# Altium footprint library con-rib.PCBLIB: 15 footprints
Each footprint in its own frame and in the unit in brackets; x right, y up, seen from the top. Pads: shape width x height; smd on the part's side, far side on the other; paste and mask are expansions set on the pad; w line width, h text height; cw(c..) or ccw(c..) is an arc to the next point about the centre after c.
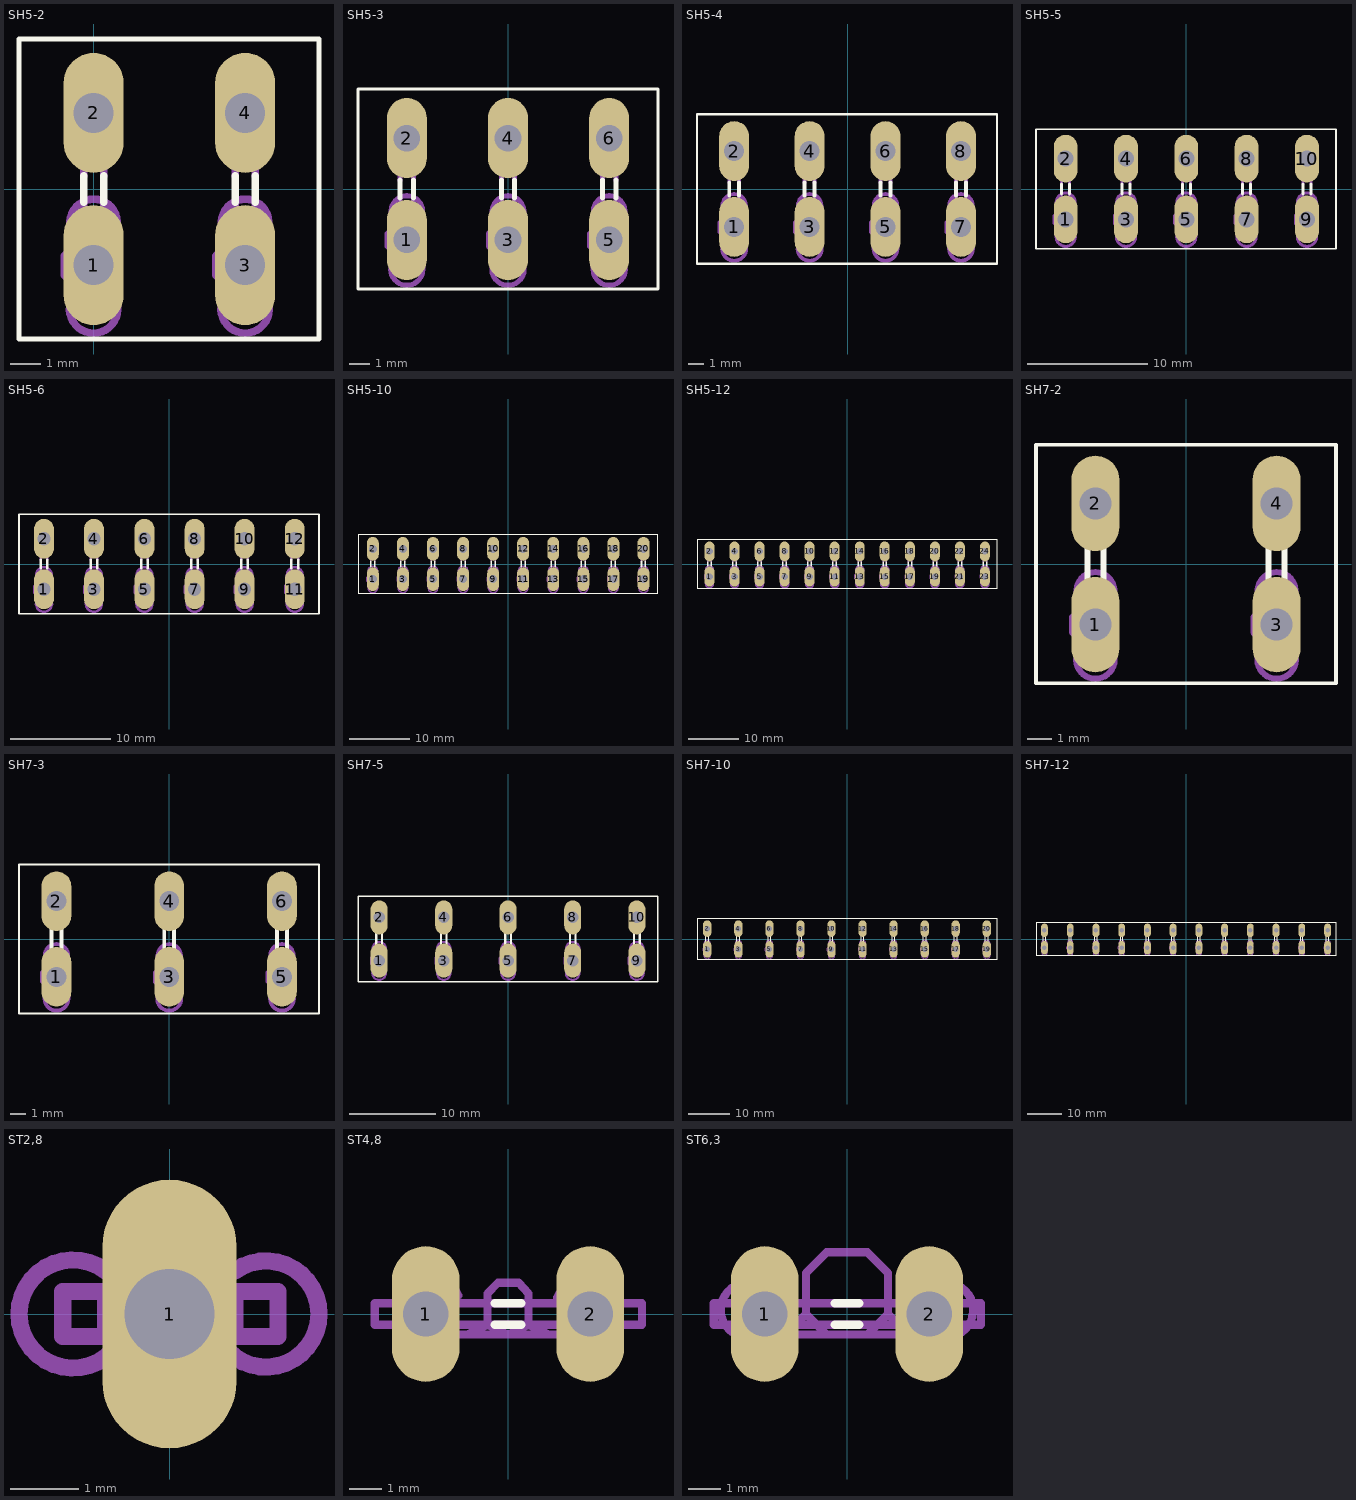
[diagram p0: the footprints below, top view; thin cyan lines are the x and y axes]

## SH5-2 [mil]
pads (4):
  oval 78x156 hole 52: 1(0,-99) 2(0,99) 3(197,-99) 4(197,99)
Top Overlay:
  lines w6: -97,-195 293,-195 293,195 -97,195 -97,-195
  lines w10: -13,-17 -13,17 ; 13,-17 13,17 ; 184,-17 184,17 ; 210,-17 210,17
Mechanical 16:
  lines w10: -25,-137 ccw(c0,-156) 25,-137 ; -25,-62 cw(c0,-44) 25,-62 ; -13,-17 -13,-37 ; -13,17 -13,38 ; 13,-17 13,-37 ; 13,17 13,38 ; 172,-137 ccw(c197,-156) 222,-137 ; 172,-62 cw(c197,-44) 222,-62 ; 184,-17 184,-37 ; 184,17 184,38 ; 210,-17 210,-37 ; 210,17 210,38 ; -13,-137 -13,-62 ; -13,-137 13,-137 ; -13,-137 -13,-162 13,-162 13,-137 ; -13,-62 13,-62 ; -13,-62 -13,-37 ; -13,-37 13,-37 ; -13,38 -13,63 ; -13,38 13,38 ; -13,63 -13,138 ; -13,63 13,63 ; -13,138 13,138 ; -13,138 -13,163 13,163 13,138 ; 13,-137 13,-125 ; 13,-125 13,-75 ; 13,-125 25,-125 ; 13,-125 25,-137 ; 13,-125 -25,-125 -38,-112 -38,-87 -25,-75 13,-75 ; 13,-125 25,-112 ; 13,-75 13,-62 ; 13,-75 25,-75 ; 13,-75 25,-62 ; 13,-75 25,-87 ; 13,-62 13,-37 ; 13,38 13,63 ; 13,63 13,138 ; 25,-137 25,-125 ; 25,-125 25,-112 ; 25,-112 25,-87 ; 25,-87 25,-75 ; 25,-75 25,-62 ; 184,-137 184,-62 ; 184,-137 210,-137 ; 184,-137 184,-162 210,-162 210,-137 ; 184,-62 210,-62 ; 184,-62 184,-37 ; 184,-37 210,-37 ; 184,38 184,63 ; 184,38 210,38 ; 184,63 184,138 ; 184,63 210,63 ; 184,138 210,138 ; 184,138 184,163 210,163 210,138 ; 210,-137 210,-125 ; 210,-125 210,-75 ; 210,-125 222,-125 ; 210,-125 222,-137 ; 210,-125 172,-125 159,-112 159,-87 172,-75 210,-75 ; 210,-125 222,-112 ; 210,-75 210,-62 ; 210,-75 222,-75 ; 210,-75 222,-62 ; 210,-75 222,-87 ; 210,-62 210,-37 ; 210,38 210,63 ; 210,63 210,138 ; 222,-137 222,-125 ; 222,-125 222,-112 ; 222,-112 222,-87 ; 222,-87 222,-75 ; 222,-75 222,-62

## SH5-3 [mil]
pads (6):
  oval 78x156 hole 52: 1(-197,-99) 2(-197,99) 3(0,-99) 4(0,99) 5(197,-99) 6(197,99)
Top Overlay:
  lines w6: -292,-195 292,-195 292,195 -292,195 -292,-195
  lines w10: -210,-17 -210,17 ; -184,-17 -184,17 ; -13,-17 -13,17 ; 13,-17 13,17 ; 184,-17 184,17 ; 210,-17 210,17
Mechanical 16:
  lines w10: -222,-137 ccw(c-197,-156) -172,-137 ; -222,-62 cw(c-197,-44) -172,-62 ; -210,-17 -210,-37 ; -210,17 -210,38 ; -184,-17 -184,-37 ; -184,17 -184,38 ; -25,-137 ccw(c0,-156) 25,-137 ; -25,-62 cw(c0,-44) 25,-62 ; -13,-17 -13,-37 ; -13,17 -13,38 ; 13,-17 13,-37 ; 13,17 13,38 ; 172,-137 ccw(c197,-156) 222,-137 ; 172,-62 cw(c197,-44) 222,-62 ; 184,-17 184,-37 ; 184,17 184,38 ; 210,-17 210,-37 ; 210,17 210,38 ; -210,-137 -210,-62 ; -210,-137 -184,-137 ; -210,-137 -210,-162 -184,-162 -184,-137 ; -210,-62 -184,-62 ; -210,-62 -210,-37 ; -210,-37 -184,-37 ; -210,38 -210,63 ; -210,38 -184,38 ; -210,63 -210,138 ; -210,63 -184,63 ; -210,138 -184,138 ; -210,138 -210,163 -184,163 -184,138 ; -184,-137 -184,-125 ; -184,-125 -184,-75 ; -184,-125 -172,-125 ; -184,-125 -172,-137 ; -184,-125 -222,-125 -235,-112 -235,-87 -222,-75 -184,-75 ; -184,-125 -172,-112 ; -184,-75 -184,-62 ; -184,-75 -172,-75 ; -184,-75 -172,-62 ; -184,-75 -172,-87 ; -184,-62 -184,-37 ; -184,38 -184,63 ; -184,63 -184,138 ; -172,-137 -172,-125 ; -172,-125 -172,-112 ; -172,-112 -172,-87 ; -172,-87 -172,-75 ; -172,-75 -172,-62 ; -13,-137 -13,-62 ; -13,-137 13,-137 ; -13,-137 -13,-162 13,-162 13,-137 ; -13,-62 13,-62 ; -13,-62 -13,-37 ; -13,-37 13,-37 ; -13,38 -13,63 ; -13,38 13,38 ; -13,63 -13,138 ; -13,63 13,63 ; -13,138 13,138 ; -13,138 -13,163 13,163 13,138 ; 13,-137 13,-125 ; 13,-125 13,-75 ; 13,-125 25,-125 ; 13,-125 25,-137 ; 13,-125 -25,-125 -38,-112 -38,-87 -25,-75 13,-75 ; 13,-125 25,-112 ; 13,-75 13,-62 ; 13,-75 25,-75 ; 13,-75 25,-62 ; 13,-75 25,-87 ; 13,-62 13,-37 ; 13,38 13,63 ; 13,63 13,138 ; 25,-137 25,-125 ; 25,-125 25,-112 ; 25,-112 25,-87 ; 25,-87 25,-75 ; 25,-75 25,-62 ; 184,-137 184,-62 ; 184,-137 210,-137 ; 184,-137 184,-162 210,-162 210,-137 ; 184,-62 210,-62 ; 184,-62 184,-37 ; 184,-37 210,-37 ; 184,38 184,63 ; 184,38 210,38 ; 184,63 184,138 ; 184,63 210,63 ; 184,138 210,138 ; 184,138 184,163 210,163 210,138 ; 210,-137 210,-125 ; 210,-125 210,-75 ; 210,-125 222,-125 ; 210,-125 222,-137 ; 210,-125 172,-125 159,-112 159,-87 172,-75 210,-75 ; 210,-125 222,-112 ; 210,-75 210,-62 ; 210,-75 222,-75 ; 210,-75 222,-62 ; 210,-75 222,-87 ; 210,-62 210,-37 ; 210,38 210,63 ; 210,63 210,138 ; 222,-137 222,-125 ; 222,-125 222,-112 ; 222,-112 222,-87 ; 222,-87 222,-75 ; 222,-75 222,-62

## SH5-4 [mil]
pads (8):
  oval 78x156 hole 52: 1(-296,-99) 2(-296,99) 3(-99,-99) 4(-99,99) 5(99,-99) 6(99,99) 7(296,-99) 8(296,99)
Top Overlay:
  lines w6: -393,-195 -393,195 390,195 390,-195 -393,-195
  lines w10: -309,-17 -309,17 ; -283,-17 -283,17 ; -112,-17 -112,17 ; -86,-17 -86,17 ; 86,-17 86,17 ; 112,-17 112,17 ; 283,-17 283,17 ; 309,-17 309,17
Mechanical 16:
  drawing of 176 lines, arcs and shapes, not listed

## SH5-5 [mil]
pads (10):
  oval 78x156 hole 52: 1(-394,-99) 2(-394,99) 3(-197,-99) 4(-197,99) 5(0,-99) 6(0,99) 7(197,-99) 8(197,99) 9(394,-99) 10(394,99)
Top Overlay:
  lines w6: -491,-195 -491,195 489,195 489,-195 -491,-195
  lines w10: -407,-17 -407,17 ; -381,-17 -381,17 ; -210,-17 -210,17 ; -184,-17 -184,17 ; -13,-17 -13,17 ; 13,-17 13,17 ; 184,-17 184,17 ; 210,-17 210,17 ; 381,-17 381,17 ; 407,-17 407,17
Mechanical 16:
  drawing of 220 lines, arcs and shapes, not listed

## SH5-6 [mil]
pads (12):
  oval 78x156 hole 52: 1(-492,-99) 2(-492,99) 3(-296,-99) 4(-296,99) 5(-98,-99) 6(-98,99) 7(99,-99) 8(99,99) 9(295,-99) 10(295,99) 11(492,-99) 12(492,99)
Top Overlay:
  lines w6: -590,-195 -590,195 587,195 587,-195 -590,-195
  lines w10: -505,-17 -505,17 ; -479,-17 -479,17 ; -309,-17 -309,17 ; -283,-17 -283,17 ; -111,-17 -111,17 ; -85,-17 -85,17 ; 86,-17 86,17 ; 112,-17 112,17 ; 282,-17 282,17 ; 308,-17 308,17 ; 479,-17 479,17 ; 505,-17 505,17
Mechanical 16:
  drawing of 264 lines, arcs and shapes, not listed

## SH5-10 [mil]
pads (20):
  oval 78x156 hole 52: 1(-886,-99) 2(-886,99) 3(-689,-99) 4(-689,99) 5(-492,-99) 6(-492,99) 7(-295,-99) 8(-295,99) 9(-98,-99) 10(-98,99) 11(98,-99) 12(98,99) 13(295,-99) 14(295,99) 15(492,-99) 16(492,99) 17(689,-99) 18(689,99) 19(886,-99) 20(886,99)
Top Overlay:
  lines w6: -983,-195 -983,195 981,195 981,-195 -983,-195
  lines w10: -899,-17 -899,17 ; -873,-17 -873,17 ; -702,-17 -702,17 ; -676,-17 -676,17 ; -505,-17 -505,17 ; -479,-17 -479,17 ; -308,-17 -308,17 ; -282,-17 -282,17 ; -111,-17 -111,17 ; -85,-17 -85,17 ; 85,-17 85,17 ; 111,-17 111,17 ; 282,-17 282,17 ; 308,-17 308,17 ; 479,-17 479,17 ; 505,-17 505,17 ; 676,-17 676,17 ; 702,-17 702,17 ; 873,-17 873,17 ; 899,-17 899,17
Mechanical 16:
  drawing of 440 lines, arcs and shapes, not listed

## SH5-12 [mil]
pads (24):
  oval 78x156 hole 52: 1(-1083,-99) 2(-1083,99) 3(-886,-99) 4(-886,99) 5(-689,-99) 6(-689,99) 7(-492,-99) 8(-492,99) 9(-296,-99) 10(-296,99) 11(-99,-99) 12(-99,99) 13(99,-99) 14(99,99) 15(295,-99) 16(295,99) 17(493,-99) 18(493,99) 19(690,-99) 20(690,99) 21(886,-99) 22(886,99) 23(1083,-99) 24(1083,99)
Top Overlay:
  lines w6: -1181,-195 -1181,195 1178,195 1178,-195 -1181,-195
  lines w10: -1096,-17 -1096,17 ; -1070,-17 -1070,17 ; -899,-17 -899,17 ; -873,-17 -873,17 ; -702,-17 -702,17 ; -676,-17 -676,17 ; -505,-17 -505,17 ; -479,-17 -479,17 ; -309,-17 -309,17 ; -283,-17 -283,17 ; -112,-17 -112,17 ; -86,-17 -86,17 ; 86,-17 86,17 ; 112,-17 112,17 ; 282,-17 282,17 ; 308,-17 308,17 ; 480,-17 480,17 ; 506,-17 506,17 ; 677,-17 677,17 ; 703,-17 703,17 ; 873,-17 873,17 ; 899,-17 899,17 ; 1070,-17 1070,17 ; 1096,-17 1096,17
Mechanical 16:
  drawing of 528 lines, arcs and shapes, not listed

## SH7-2 [mil]
pads (4):
  oval 78x156 hole 52: 1(-148,-99) 2(-148,99) 3(148,-99) 4(148,99)
Top Overlay:
  lines w6: -245,-195 245,-195 245,195 -245,195 -245,-195
  lines w10: -161,-27 -161,27 ; -135,-27 -135,27 ; 135,-27 135,27 ; 161,-27 161,27
Mechanical 16:
  lines w10: -173,-137 ccw(c-148,-156) -123,-137 ; -173,-62 cw(c-148,-44) -123,-62 ; -161,-26 -161,-37 ; -161,27 -161,38 ; -135,-26 -135,-37 ; -135,27 -135,38 ; 123,-137 ccw(c148,-156) 173,-137 ; 123,-62 cw(c148,-44) 173,-62 ; 135,-28 135,-37 ; 135,28 135,38 ; 161,-27 161,-37 ; 161,28 161,38 ; -161,-137 -161,-62 ; -161,-137 -135,-137 ; -161,-137 -161,-162 -135,-162 -135,-137 ; -161,-62 -135,-62 ; -161,-62 -161,-37 ; -161,-37 -135,-37 ; -161,38 -161,63 ; -161,38 -135,38 ; -161,63 -161,138 ; -161,63 -135,63 ; -161,138 -135,138 ; -161,138 -161,163 -135,163 -135,138 ; -135,-137 -135,-125 ; -135,-125 -135,-75 ; -135,-125 -123,-125 ; -135,-125 -123,-137 ; -135,-125 -173,-125 -186,-112 -186,-87 -173,-75 -135,-75 ; -135,-125 -123,-112 ; -135,-75 -135,-62 ; -135,-75 -123,-75 ; -135,-75 -123,-62 ; -135,-75 -123,-87 ; -135,-62 -135,-37 ; -135,38 -135,63 ; -135,63 -135,138 ; -123,-137 -123,-125 ; -123,-125 -123,-112 ; -123,-112 -123,-87 ; -123,-87 -123,-75 ; -123,-75 -123,-62 ; 135,-137 135,-62 ; 135,-137 161,-137 ; 135,-137 135,-162 161,-162 161,-137 ; 135,-62 161,-62 ; 135,-62 135,-37 ; 135,-37 161,-37 ; 135,38 135,63 ; 135,38 161,38 ; 135,63 135,138 ; 135,63 161,63 ; 135,138 161,138 ; 135,138 135,163 161,163 161,138 ; 161,-137 161,-125 ; 161,-125 161,-75 ; 161,-125 173,-125 ; 161,-125 173,-137 ; 161,-125 123,-125 110,-112 110,-87 123,-75 161,-75 ; 161,-125 173,-112 ; 161,-75 161,-62 ; 161,-75 173,-75 ; 161,-75 173,-62 ; 161,-75 173,-87 ; 161,-62 161,-37 ; 161,38 161,63 ; 161,63 161,138 ; 173,-137 173,-125 ; 173,-125 173,-112 ; 173,-112 173,-87 ; 173,-87 173,-75 ; 173,-75 173,-62

## SH7-3 [mil]
pads (6):
  oval 78x156 hole 52: 1(-295,-99) 2(-295,99) 3(0,-99) 4(0,99) 5(295,-99) 6(295,99)
Top Overlay:
  lines w6: -393,-195 -393,195 392,195 392,-195 -393,-195
  lines w10: -308,-28 -308,29 ; -282,-28 -282,29 ; -13,-28 -13,29 ; 13,-28 13,29 ; 282,-30 282,30 ; 308,-29 308,30
Mechanical 16:
  lines w10: -320,-137 ccw(c-295,-156) -270,-137 ; -320,-62 cw(c-295,-44) -270,-62 ; -308,-29 -308,-62 ; -308,30 -308,63 ; -307,-37 -282,-37 ; -307,38 -282,38 ; -282,-29 -282,-37 ; -282,30 -282,38 ; -25,-137 ccw(c0,-156) 25,-137 ; -25,-62 cw(c0,-44) 25,-62 ; -13,-29 -13,-62 ; -13,30 -13,63 ; -12,-37 13,-37 ; -12,38 13,38 ; 13,-29 13,-37 ; 13,30 13,38 ; 270,-137 ccw(c295,-156) 320,-137 ; 270,-62 cw(c295,-44) 320,-62 ; 282,-29 282,-62 ; 282,30 282,63 ; 283,-37 308,-37 ; 283,38 308,38 ; 308,-29 308,-37 ; 308,30 308,38 ; -308,-137 -308,-62 ; -308,-137 -282,-137 ; -308,-137 -308,-162 -282,-162 -282,-137 ; -308,-62 -282,-62 ; -308,63 -308,138 ; -308,63 -282,63 ; -308,138 -282,138 ; -308,138 -308,163 -282,163 -282,138 ; -282,-137 -282,-125 ; -282,-125 -282,-75 ; -282,-125 -270,-125 ; -282,-125 -270,-137 ; -282,-125 -320,-125 -333,-112 -333,-87 -320,-75 -282,-75 ; -282,-125 -270,-112 ; -282,-75 -282,-62 ; -282,-75 -270,-75 ; -282,-75 -270,-62 ; -282,-75 -270,-87 ; -282,-62 -282,-37 ; -282,38 -282,63 ; -282,63 -282,138 ; -270,-137 -270,-125 ; -270,-125 -270,-112 ; -270,-112 -270,-87 ; -270,-87 -270,-75 ; -270,-75 -270,-62 ; -13,-137 -13,-62 ; -13,-137 13,-137 ; -13,-137 -13,-162 13,-162 13,-137 ; -13,-62 13,-62 ; -13,63 -13,138 ; -13,63 13,63 ; -13,138 13,138 ; -13,138 -13,163 13,163 13,138 ; 13,-137 13,-125 ; 13,-125 13,-75 ; 13,-125 25,-125 ; 13,-125 25,-137 ; 13,-125 -25,-125 -38,-112 -38,-87 -25,-75 13,-75 ; 13,-125 25,-112 ; 13,-75 13,-62 ; 13,-75 25,-75 ; 13,-75 25,-62 ; 13,-75 25,-87 ; 13,-62 13,-37 ; 13,38 13,63 ; 13,63 13,138 ; 25,-137 25,-125 ; 25,-125 25,-112 ; 25,-112 25,-87 ; 25,-87 25,-75 ; 25,-75 25,-62 ; 282,-137 282,-62 ; 282,-137 308,-137 ; 282,-137 282,-162 308,-162 308,-137 ; 282,-62 308,-62 ; 282,63 282,138 ; 282,63 308,63 ; 282,138 308,138 ; 282,138 282,163 308,163 308,138 ; 308,-137 308,-125 ; 308,-125 308,-75 ; 308,-125 320,-125 ; 308,-125 320,-137 ; 308,-125 270,-125 257,-112 257,-87 270,-75 308,-75 ; 308,-125 320,-112 ; 308,-75 308,-62 ; 308,-75 320,-75 ; 308,-75 320,-62 ; 308,-75 320,-87 ; 308,-62 308,-37 ; 308,38 308,63 ; 308,63 308,138 ; 320,-137 320,-125 ; 320,-125 320,-112 ; 320,-112 320,-87 ; 320,-87 320,-75 ; 320,-75 320,-62

## SH7-5 [mil]
pads (10):
  oval 78x156 hole 52: 1(-591,-99) 2(-591,99) 3(-295,-99) 4(-295,99) 5(0,-99) 6(0,99) 7(296,-99) 8(296,99) 9(590,-99) 10(590,99)
Top Overlay:
  lines w6: -688,-195 -688,195 687,195 687,-195 -688,-195
  lines w10: -604,-28 -604,29 ; -578,-28 -578,29 ; -308,-28 -308,29 ; -282,-28 -282,29 ; -13,-28 -13,29 ; 13,-28 13,29 ; 283,-28 283,29 ; 309,-28 309,29 ; 577,-28 577,29 ; 603,-28 603,29
Mechanical 16:
  drawing of 220 lines, arcs and shapes, not listed

## SH7-10 [mil]
pads (20):
  oval 78x156 hole 52: 1(-1329,-99) 2(-1329,99) 3(-1033,-99) 4(-1033,99) 5(-738,-99) 6(-738,99) 7(-442,-99) 8(-442,99) 9(-148,-99) 10(-148,99) 11(148,-99) 12(148,99) 13(443,-99) 14(443,99) 15(739,-99) 16(739,99) 17(1033,-99) 18(1033,99) 19(1329,-99) 20(1329,99)
Top Overlay:
  lines w6: -1426,-195 -1426,195 1426,195 1426,-195 -1426,-195
  lines w10: -1342,-28 -1342,29 ; -1316,-28 -1316,29 ; -1046,-28 -1046,29 ; -1020,-28 -1020,29 ; -751,-28 -751,29 ; -725,-28 -725,29 ; -455,-28 -455,29 ; -429,-28 -429,29 ; -161,-28 -161,29 ; -135,-28 -135,29 ; 135,-28 135,29 ; 161,-28 161,29 ; 430,-28 430,29 ; 456,-28 456,29 ; 726,-28 726,29 ; 752,-28 752,29 ; 1020,-28 1020,29 ; 1046,-28 1046,29 ; 1316,-28 1316,29 ; 1342,-28 1342,29
Mechanical 16:
  drawing of 440 lines, arcs and shapes, not listed

## SH7-12 [mil]
pads (24):
  oval 78x156 hole 52: 1(-1624,-99) 2(-1624,99) 3(-1328,-99) 4(-1328,99) 5(-1033,-99) 6(-1033,99) 7(-738,-99) 8(-738,99) 9(-443,-99) 10(-443,99) 11(-148,-99) 12(-148,99) 13(148,-99) 14(148,99) 15(443,-99) 16(443,99) 17(738,-99) 18(738,99) 19(1033,-99) 20(1033,99) 21(1329,-99) 22(1329,99) 23(1625,-99) 24(1625,99)
Top Overlay:
  lines w6: -1721,-195 -1721,195 1721,195 1721,-195 -1721,-195
  lines w10: -1637,-28 -1637,29 ; -1611,-28 -1611,29 ; -1341,-28 -1341,29 ; -1315,-28 -1315,29 ; -1046,-28 -1046,29 ; -1020,-28 -1020,29 ; -751,-28 -751,29 ; -725,-28 -725,29 ; -456,-28 -456,29 ; -430,-28 -430,29 ; -161,-28 -161,29 ; -135,-28 -135,29 ; 135,-29 135,29 ; 161,-28 161,29 ; 430,-28 430,29 ; 456,-28 456,29 ; 725,-28 725,29 ; 751,-28 751,29 ; 1020,-28 1020,29 ; 1046,-28 1046,29 ; 1316,-28 1316,29 ; 1342,-28 1342,29 ; 1612,-28 1612,29 ; 1638,-28 1638,29
Mechanical 16:
  drawing of 528 lines, arcs and shapes, not listed

## ST2,8 [mil]
pads (1):
  oval 78x156 hole 52: 1(0,0)
Mechanical 16:
  lines w10: -37,25 ccw(c-56,0) -37,-25 ; 38,25 cw(c56,0) 38,-25 ; -37,-25 -25,-25 ; -37,-25 -25,-13 ; -37,-13 -37,13 ; -37,-13 -25,-13 ; -37,-13 -62,-13 -62,13 -37,13 ; -37,13 38,13 ; -25,-25 -25,-13 ; -25,-25 -12,-25 ; -25,-13 25,-13 ; -25,-13 -25,25 -12,38 13,38 25,25 25,-13 ; -25,-13 -12,-25 ; -12,-25 13,-25 ; 13,-25 25,-13 ; 13,-25 25,-25 ; 25,-25 25,-13 ; 25,-25 38,-25 ; 25,-13 38,-13 ; 25,-13 38,-25 ; 38,-13 38,13 ; 38,-13 63,-13 63,13 38,13

## ST4,8 [mil]
pads (2):
  oval 82.5x165 hole 55: 1(-100,0) 2(100,0)
Top Overlay:
  lines w10: -16,-13 16,-13 ; -16,13 16,13
Mechanical 16:
  lines w10: -60.07,22.46 ccw(c-95,5) -70,-25 -50,-25 ; 60,20 cw(c95,5.01) 72.87,-25.98 ; 75,-25 50,-25 ; -99,-13 -99,13 ; -99,-13 -25,-13 ; -99,-13 -162,-13 -162,13 -99,13 ; -99,13 101,13 ; -50,-25 -25,-13 ; -50,-25 0,-25 ; -25,-13 25,-13 ; -25,-13 -25,25 -12,38 13,38 25,25 25,-13 ; -25,-13 0,-25 ; 0,-25 50,-25 ; 0,-25 25,-13 ; 25,-13 101,-13 ; 25,-13 50,-25 ; 101,-13 101,13 ; 101,-13 163,-13 163,13 101,13

## ST6,3 [mil]
pads (2):
  oval 82.5x165 hole 55: 1(-100,0) 2(100,0)
Top Overlay:
  lines w10: -15,-13 15,-13 ; -15,13 15,13
Mechanical 16:
  lines w10: -90.87,21.65 ccw(c-120,5.01) -105,-25 -75,-25 ; 90,20 cw(c120,5) 101.39,-22.91 ; 103,-25 75,-25 ; -125,-13 -125,13 ; -125,-13 125,-13 ; -125,-13 -162,-13 -162,13 -125,13 ; -125,13 125,13 ; -75,-25 -50,0 ; -75,-25 -25,-25 ; -50,0 -50,50 -25,75 25,75 50,50 50,0 ; -50,0 -25,-25 ; -25,-25 25,-25 ; 25,-25 50,0 ; 25,-25 75,-25 ; 50,0 75,-25 ; 125,-13 125,13 ; 125,-13 163,-13 163,13 125,13